# EAGLE library part DMG1029SV-7DICT (library systas0)
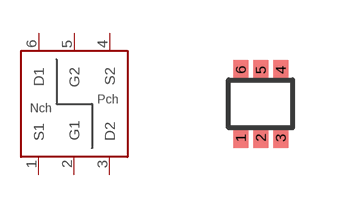
[diagram p24: symbol with the pads of DMG1029SV-7DICT; footprint DMG1029SV-7DICT]

Designator prefix -

## DMG1029SV-7DICT  [DMG1029SV-7DICT]
1  S1
2  G1
3  D2
4  S2
5  G2
6  D1

## Footprint DMG1029SV-7DICT (pad centres in mm)
smd 0.375 x 0.5: 1 -0.5,-0.85; 2 0,-0.85; 3 0.5,-0.85; 4 0.5,0.85; 5 0,0.85; 6 -0.5,0.85